# EAGLE library part 418311270810 (library Wurth_Elektronik_Electromechanic_Switch_rev17b)
WS-PT 2.54 mm piano type compact SMD Dip Switch with raised actuator, 10 Pole
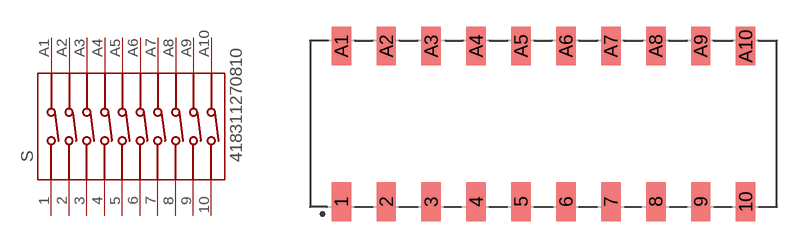
[diagram p75: symbol with the pads of 418311270810; footprint 418311270810]

Designator prefix S

## 418311270810  [418311270810]
1  1  pas
2  2  pas
3  3  pas
4  4  pas
5  5  pas
6  6  pas
7  7  pas
8  8  pas
9  9  pas
10  10  pas
A1  A1  pas
A2  A2  pas
A3  A3  pas
A4  A4  pas
A5  A5  pas
A6  A6  pas
A7  A7  pas
A8  A8  pas
A9  A9  pas
A10  A10  pas

## Footprint 418311270810 (pad centres in mm)
WS-PT 2.54 mm piano type compact SMD Dip Switch with raised actuator, 10 Pole
smd 1.1 x 2.2: 1 -11.43,-4.4; 2 -8.89,-4.4; 3 -6.35,-4.4; 4 -3.81,-4.4; 5 -1.27,-4.4; 6 1.27,-4.4; 7 3.81,-4.4; 8 6.35,-4.4; 9 8.89,-4.4; 10 11.43,-4.4; A1 -11.43,4.4; A2 -8.89,4.4; A3 -6.35,4.4; A4 -3.81,4.4; A5 -1.27,4.4; A6 1.27,4.4; A7 3.81,4.4; A8 6.35,4.4; A9 8.89,4.4; A10 11.43,4.4